# Altium schematic symbol library Oscillators.SchLib: 1 symbol
Pins are listed as number, name and electrical type; pins without a type are passive.

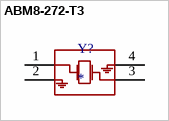
[diagram p0: symbol ABM8-272-T3]

## ABM8-272-T3
designator Y?
12 MHz ±30ppm Crystal 10pF 50 Ohms 4-SMD, No Lead
footprint ABM8-272-T3 (CRYSTAL 12.0000MHZ 10PF SMD)
pins: 1, 2, 3, 4